# EAGLE library part OPL_CONNECTOR_MICRO-USB-SMD(ZX62-B-5PA) (library MotorControl)
320010005
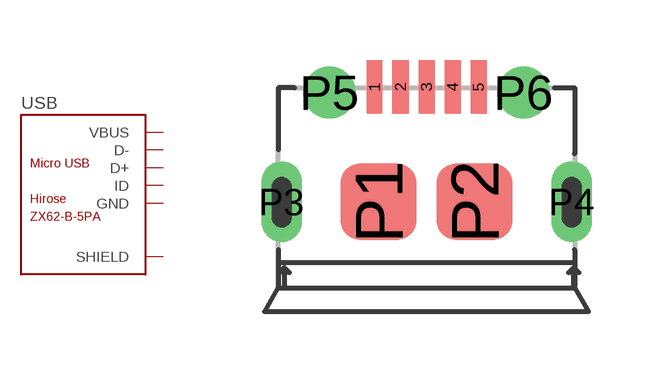
[diagram p2: symbol with the pads of OPL_CONNECTOR_MICRO-USB5+6P-SMD-0.65-AB; footprint OPL_CONNECTOR_MICRO-USB5+6P-SMD-0.65-AB]

Designator prefix USB

## OPL_CONNECTOR_MICRO-USB-SMD(ZX62-B-5PA) (MPN: ZX62-B-5PA; VALUE: ZX62-B-5PA)  [OPL_CONNECTOR_MICRO-USB5+6P-SMD-0.65-AB]
1  VBUS  sup
2  D-
3  D+
4  ID
5  GND  sup
P1  SHIELD  sup
P2  SHIELD  sup
P3  SHIELD  sup
P4  SHIELD  sup
P5  SHIELD  sup
P6  SHIELD  sup

## Footprint OPL_CONNECTOR_MICRO-USB5+6P-SMD-0.65-AB (pad centres in mm)
smd 0.4 x 1.35: 1 -1.3,2.875; 2 -0.65,2.875; 3 0,2.875; 4 0.65,2.875; 5 1.3,2.875
smd 1.9 x 1.9: P1 -1.2,0; P2 1.2,0
drill 0.508 pad 1.016 long: P3 -3.625,0; P4 3.625,0
drill 0.8: P5 -2.425,2.73; P6 2.425,2.73